# EAGLE library part FM25 (library chips)
Cypress FRAM
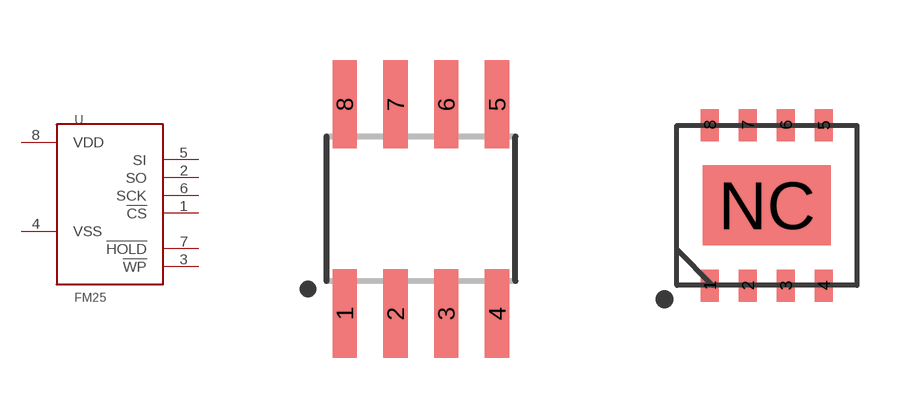
[diagram p14: symbol with the pads of SOIC-8; footprints SOIC-8, TDFN-8]

Designator prefix U

## FM25L04B-G (DIGIKEY: 428-3209-ND; MOUSER: 877-FM25L04B-G)  [SOIC-8]
1  !CS
2  SO
3  !WP
4  VSS
5  SI
6  SCK
7  !HOLD
8  VDD

## FM25L04B-DG (DIGIKEY: FM25L04B-DGRA-ND; MOUSER: 877-FM25L04B-DG)  [TDFN-8]
Pads as for SOIC-8

## FM25V20-DG (DIGIKEY: FM25V20-DGRA-ND; MOUSER: 877-FM25V20-DG)  [TDFN-8/6MM]
Pads as for SOIC-8

## FM25CLXXB-G  [SOIC-8]
Pads as for SOIC-8

## FM25CLXXB-DG  [TDFN-8]
Pads as for SOIC-8

## Footprint SOIC-8 (pad centres in mm)
smd 0.61 x 2.21: 1 -1.905,-2.616; 2 -0.635,-2.616; 3 0.635,-2.616; 4 1.905,-2.616; 5 1.905,2.616; 6 0.635,2.616; 7 -0.635,2.616; 8 -1.905,2.616

## Footprint TDFN-8 (pad centres in mm)
smd 0.45 x 0.8: 1 -1.425,-2.007; 2 -0.475,-2.007; 3 0.475,-2.007; 4 1.425,-2.007; 5 1.425,2.007; 6 0.475,2.007; 7 -0.475,2.007; 8 -1.425,2.007
smd 3.2 x 2: NC 0,0

## Footprint TDFN-8/6MM (pad centres in mm)
smd 0.55 x 1.2: 1 -1.905,-2.9; 2 -0.635,-2.9; 3 0.635,-2.9; 4 1.905,-2.9; 5 1.905,2.9; 6 0.635,2.9; 7 -0.635,2.9; 8 -1.905,2.9
smd 4 x 2.3: NC 0,0